# Altium footprint library charge_hub_V1.PcbLib: 10 footprints
Each footprint in its own frame and in the unit in brackets; x right, y up, seen from the top. Pads: shape width x height; smd on the part's side, far side on the other; paste and mask are expansions set on the pad; w line width, h text height; cw(c..) or ccw(c..) is an arc to the next point about the centre after c.
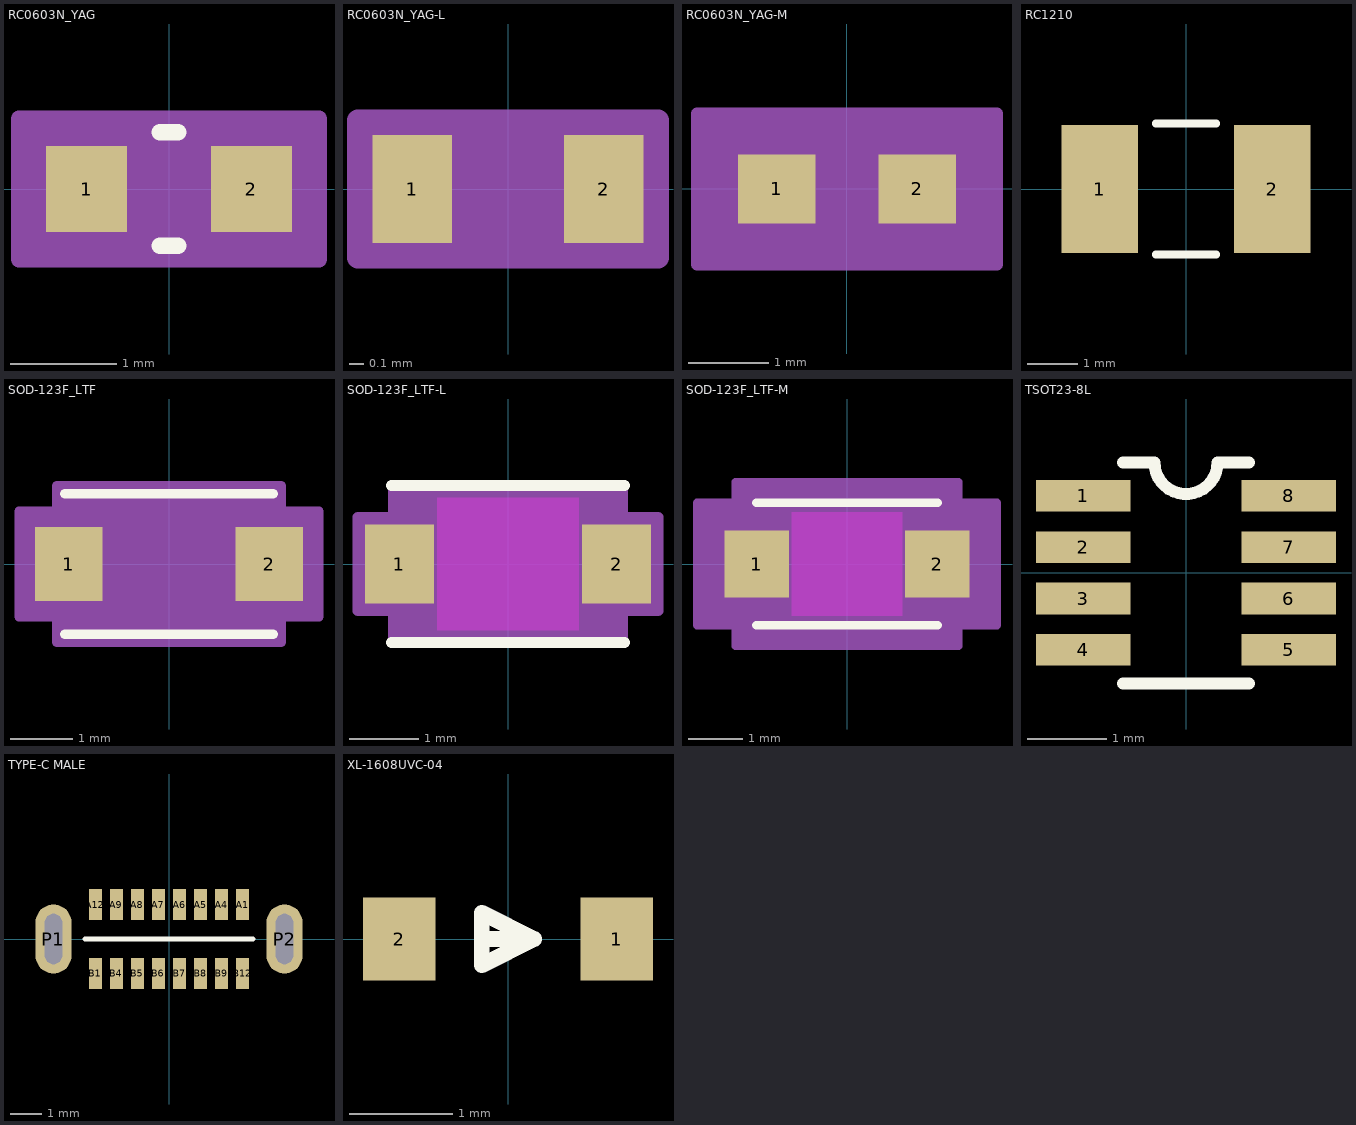
[diagram p0: the footprints below, top view; thin cyan lines are the x and y axes]

## RC0603N_YAG [mil]
pads (2):
  rect 30x32 smd paste+0 mask+0: 1(-30.5,0) 2(30.5,0)
Top Overlay:
  lines w6: -3.39,-21 3.39,-21 ; -3.39,21 3.39,21
Mechanical 13:
  lines w1: -31.5,-16 -31.5,16 ; -31.5,-16 -15.5,-16 -15.5,16 -31.5,16 ; -31.5,-16 31.5,-16 ; -31.5,-16 -31.5,16 ; -31.5,16 31.5,16 ; 31.5,-16 15.5,-16 15.5,16 31.5,16 ; 31.5,-16 31.5,16 ; 31.5,-16 31.5,16
Mechanical 15:
  region: 55.5,-26 -55.5,-26 -55.5,26 55.5,26
  lines w6: -55.5,-26 -55.5,26 55.5,26 55.5,-26 -55.5,-26
3D body "RC0603N_YAG.step": height 27.99, standoff 0, extent -31.5,-15.98 31.5,15.98

## RC0603N_YAG-L [mil]
pads (2):
  rect 22x30 smd paste+0 mask+0: 1(-26.5,0) 2(26.5,0)
Mechanical 13:
  lines w1: -31.5,-16 -31.5,16 ; -31.5,-16 31.5,-16 ; -31.5,-16 -15.5,-16 -15.5,16 -31.5,16 ; -31.5,-16 -31.5,16 ; -31.5,16 31.5,16 ; 31.5,-16 31.5,16 ; 31.5,-16 31.5,16 ; 31.5,-16 15.5,-16 15.5,16 31.5,16
Mechanical 15:
  region: 41.5,-19 -41.5,-19 -41.5,19 41.5,19
  lines w6: -41.5,-19 41.5,-19 41.5,19 -41.5,19 -41.5,-19
3D body "RC0603N_YAG.step": height 27.99, standoff 0, extent -31.5,-15.98 31.5,15.98

## RC0603N_YAG-M [mil]
pads (2):
  rect 38x34 smd paste+0 mask+0: 1(-34.5,0) 2(34.5,0)
Mechanical 13:
  lines w1: -31.5,-16 -31.5,16 ; -31.5,-16 -15.5,-16 -15.5,16 -31.5,16 ; -31.5,-16 31.5,-16 ; -31.5,-16 -31.5,16 ; -31.5,16 31.5,16 ; 31.5,-16 15.5,-16 15.5,16 31.5,16 ; 31.5,-16 31.5,16 ; 31.5,-16 31.5,16
Mechanical 15:
  region: 73.5,-37 -73.5,-37 -73.5,37 73.5,37
  lines w6: -73.5,-37 -73.5,37 73.5,37 73.5,-37 -73.5,-37
3D body "RC0603N_YAG.step": height 27.99, standoff 0, extent -31.5,-15.98 31.5,15.98

## RC1210 [mm]
pads (2):
  rect 1.52x2.54 smd: 1(-1.71,0) 2(1.71,0)
Top Overlay:
  lines w0.152: -0.6,-1.3 0.6,-1.3 ; -0.6,1.3 0.6,1.3

## SOD-123F_LTF [mil]
pads (2):
  rect 43x47 smd paste+0 mask+0: 1(-63.5,0) 2(63.5,0)
Top Overlay:
  lines w6: -66,-44.5 66,-44.5 ; -66,44.5 66,44.5
Mechanical 13:
  lines w1: -61,-19.75 -41.25,-39.5 ; -61,19.75 -41.25,39.5 ; -77,-23.5 -77,23.5 -61,23.5 -61,-23.5 -77,-23.5 ; -61,-39.5 61,-39.5 61,39.5 -61,39.5 -61,-39.5 ; 61,-23.5 61,23.5 77,23.5 77,-23.5 61,-23.5
Mechanical 15:
  region: -71,-33.5 -95,-33.5 -95,33.5 -71,33.5 -71,49.5 71,49.5 71,33.5 95,33.5 95,-33.5 71,-33.5 71,-49.5 -71,-49.5
  lines w6: -95,-33.5 -95,33.5 -71,33.5 -71,49.5 71,49.5 71,33.5 95,33.5 95,-33.5 71,-33.5 71,-49.5 -71,-49.5 -71,-33.5 -95,-33.5
3D body "SOD-123F_LTF.step": height 42.99, standoff 0, extent -77.01,-39.49 77.01,39.49

## SOD-123F_LTF-L [mil]
pads (2):
  rect 39x45 smd paste+0 mask+0: 1(-61.5,0) 2(61.5,0)
Top Layer keep-out:
  region: -40,-37.5 -40,37.5 40,37.5 40,-37.5
Top Overlay:
  lines w6: -66,-44.5 66,-44.5 ; -66,44.5 66,44.5
Keep-Out Layer:
  region: -40,-37.5 -40,37.5 40,37.5 40,-37.5
Mechanical 13:
  lines w1: -61,-19.75 -41.25,-39.5 ; -61,19.75 -41.25,39.5 ; -77,-23.5 -77,23.5 -61,23.5 -61,-23.5 -77,-23.5 ; -61,-39.5 61,-39.5 61,39.5 -61,39.5 -61,-39.5 ; 61,-23.5 61,23.5 77,23.5 77,-23.5 61,-23.5
Mechanical 15:
  region: -65,-26.5 -85,-26.5 -85,26.5 -65,26.5 -65,43.5 65,43.5 65,26.5 85,26.5 85,-26.5 65,-26.5 65,-43.5 -65,-43.5
  lines w6: -85,-26.5 -85,26.5 -65,26.5 -65,43.5 65,43.5 65,26.5 85,26.5 85,-26.5 65,-26.5 65,-43.5 -65,-43.5 -65,-26.5 -85,-26.5
3D body "SOD-123F_LTF.step": height 42.99, standoff 0, extent -77.01,-39.49 77.01,39.49

## SOD-123F_LTF-M [mil]
pads (2):
  rect 47x49 smd paste+0 mask+0: 1(-65.5,0) 2(65.5,0)
Top Layer keep-out:
  region: -40,-37.5 -40,37.5 40,37.5 40,-37.5
Top Overlay:
  lines w6: -66,-44.5 66,-44.5 ; -66,44.5 66,44.5
Keep-Out Layer:
  region: -40,-37.5 -40,37.5 40,37.5 40,-37.5
Mechanical 13:
  lines w1: -61,-19.75 -41.25,-39.5 ; -61,19.75 -41.25,39.5 ; -77,-23.5 -77,23.5 -61,23.5 -61,-23.5 -77,-23.5 ; -61,-39.5 61,-39.5 61,39.5 -61,39.5 -61,-39.5 ; 61,-23.5 61,23.5 77,23.5 77,-23.5 61,-23.5
Mechanical 15:
  region: -81,-44.5 -109,-44.5 -109,44.5 -81,44.5 -81,59.5 81,59.5 81,44.5 109,44.5 109,-44.5 81,-44.5 81,-59.5 -81,-59.5
  lines w6: -109,-44.5 -109,44.5 -81,44.5 -81,59.5 81,59.5 81,44.5 109,44.5 109,-44.5 81,-44.5 81,-59.5 -81,-59.5 -81,-44.5 -109,-44.5
3D body "SOD-123F_LTF.step": height 42.99, standoff 0, extent -77.01,-39.49 77.01,39.49

## TSOT23-8L [mm]
pads (8):
  rect 1.2x0.4 smd mask+0: 1(-1.3,0.975) 2(-1.3,0.325) 3(-1.3,-0.325) 4(-1.3,-0.975) 5(1.3,-0.975) 6(1.3,-0.325) 7(1.3,0.325) 8(1.3,0.975)
Top Overlay:
  lines w0.152: -0.8,-1.4 0.8,-1.4 ; -0.8,1.4 -0.4,1.4 ccw(c0,1.4) 0.4,1.4 0.8,1.4

## TYPE-C MALE [mm]
pads (18):
  rect 0.4x1 smd: A1(2.345,1.1) A4(1.675,1.1) A5(1.005,1.1) A6(0.335,1.1) A7(-0.335,1.1) A8(-1.005,1.1) A9(-1.675,1.1) A12(-2.345,1.1) B1(-2.345,-1.1) B4(-1.675,-1.1) B5(-1.005,-1.1) B6(-0.335,-1.1) B7(0.335,-1.1) B8(1.005,-1.1) B9(1.675,-1.1) B12(2.345,-1.1)
  oval 1.15x2.2 hole 0.55 slot 1.6 at 90 deg: P1(-3.685,0) P2(3.685,0)
Top Overlay:
  lines w0.152: -2.68,0 2.68,0

## XL-1608UVC-04 [mm]
pads (2):
  rect 0.7x0.8 smd: 1(1.05,0) 2(-1.05,0)
Top Overlay:
  lines w0.152: -0.254,0 0.254,0 ; 0.254,0 -0.254,-0.254 -0.254,0.254 0.254,0